# Altium footprint library layouts.PcbLib: 23 footprints (part 2 of 2)
Each footprint in its own frame and in the unit in brackets; x right, y up, seen from the top. Pads: shape width x height; smd on the part's side, far side on the other; paste and mask are expansions set on the pad; w line width, h text height; cw(c..) or ccw(c..) is an arc to the next point about the centre after c.
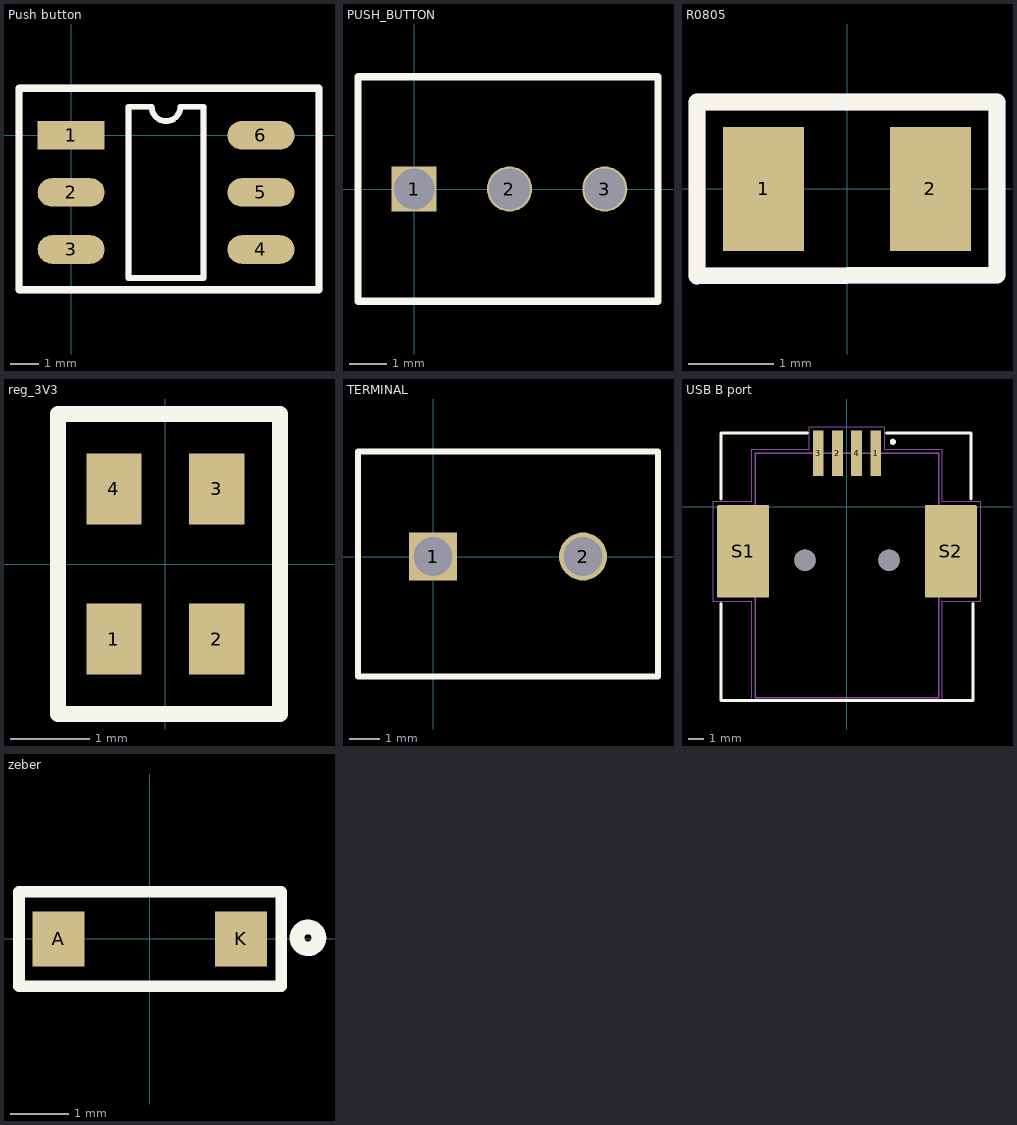
[diagram p1: the footprints below, top view; thin cyan lines are the x and y axes]

## Push button [mm]
pads (6):
  rect 2.35x1 smd: 1(0,0)
  oval 2.35x1 smd: 2(0,-2) 3(0,-4) 4(6.65,-4) 5(6.65,-2) 6(6.65,0)
Top Overlay:
  lines w0.2: 2.01,-5 2.01,1 2.825,1 ccw(c3.325,1) 3.825,1 4.64,1 4.64,-5 2.01,-5
  lines w0.254: -1.829,-5.41 -1.829,1.651 8.687,1.651 8.687,-5.41 -1.829,-5.41
Mechanical 29:
  lines w0.2: 2.01,-5 2.01,1 2.825,1 ccw(c3.325,1) 3.825,1 4.64,1 4.64,-5 2.01,-5
  lines w0.254: -1.829,-5.41 -1.829,1.651 8.687,1.651 8.687,-5.41 -1.829,-5.41
  text ".Designator" at -2.845,2.591 h1.52
3D body "TL2233OA.stp": height 7.9, standoff 0, extent -0.622,-4.881 7.378,0.919

## PUSH_BUTTON [mm]
pads (3):
  rect 1.2x1.2 hole 1.09: 1(0,0)
  round 1.2 hole 1.09: 2(2.54,0) 3(5.08,0)
Top Overlay:
  lines w0.2: -1.5,-3 -1.5,3 6.5,3 6.5,-3 -1.5,-3
Mechanical 1:
  text ".Designator" at -1.546,3.762 h1.52
3D body "800CSP1B6M2xE.stp": height 18.94, standoff -3.11, extent -1.51,-3.047 6.59,3.047

## R0805 [mm]
pads (2):
  rect 0.95x1.45 smd: 1(-0.975,0) 2(0.975,0)
Top Overlay:
  lines w0.2: -1.753,-1.018 -1.753,1.016 ; -1.753,-1.018 1.753,-1.008 ; -1.753,-1.018 1.753,-1.008 ; -1.753,-1.018 -1.753,1.016 ; -1.753,-1.018 1.753,-1.008 ; -1.753,-1.018 -1.753,1.016 ; -1.753,-1.018 1.753,-1.008 ; -1.753,1.016 1.753,1.016 ; -1.753,1.016 1.753,1.016 ; -1.753,1.016 1.753,1.016 ; 1.753,-1.008 1.753,1.016 ; 1.753,-1.008 1.753,1.016 ; 1.753,-1.008 1.753,1.016
Mechanical 29:
  lines w0.2: -1.753,-1.018 -1.753,1.016 ; -1.753,-1.018 1.753,-1.008 ; -1.753,-1.018 1.753,-1.008 ; -1.753,-1.018 -1.753,1.016 ; -1.753,-1.018 1.753,-1.008 ; -1.753,-1.018 -1.753,1.016 ; -1.753,-1.018 1.753,-1.008 ; -1.753,1.016 1.753,1.016 ; -1.753,1.016 1.753,1.016 ; -1.753,1.016 1.753,1.016 ; 1.753,-1.008 1.753,1.016 ; 1.753,-1.008 1.753,1.016 ; 1.753,-1.008 1.753,1.016
  text ".Designator" at -5.639,1.879 h1.52
3D body "User Library-CR2012-0805.step": height 0.6, standoff 0, extent -1,-0.625 1,0.625

## reg_3V3 [mm]
pads (4):
  rect 0.7x0.9 smd: 1(-0.65,-0.95) 2(0.65,-0.95) 3(0.65,0.95) 4(-0.65,0.95)
Top Overlay:
  lines w0.2: -1.36,-1.9 -1.36,1.9 1.453,1.9 1.453,-1.9 -1.36,-1.9
3D body "SC-82AB_ONS.step": height 1.09, standoff 0, extent -1.003,-1.207 1.003,1.207

## TERMINAL [mm]
pads (2):
  rect 1.6x1.6 hole 1.3: 1(0,0)
  round 1.6 hole 1.3: 2(5,0)
Top Overlay:
  lines w0.2: -2.5,-4 7.5,-4 7.5,3.5 -2.5,3.5 -2.5,-4
Mechanical 1:
  text ".Designator" at -2.446,4.562 h1.52
3D body "691137710002.step": height 11.5, standoff -3.6, extent -2.5,-4 7.5,3.5

## USB B port [mm]
pads (8):
  rrect4% 0.7x3 smd: 1(1.875,3.5) 2(-0.625,3.5) 3(-1.875,3.5) 4(0.625,3.5)
  rrect4% 3.4x6.04 smd: S1(-6.8,-2.92) S2(6.8,-2.92)
  round 1.4 hole 1.4 unplated: ""(-2.75,-3.5) ""(2.75,-3.5)
Top Overlay:
  circle w0.2: c3,4.25 r0.1
  lines w0.2: -8.255,-6.35 -8.255,-12.7 8.255,-12.7 8.255,-6.35 ; -8.255,0.5 -8.255,4.826 -2.575,4.826 ; 2.575,4.826 8.128,4.826 8.128,0.5
Mechanical 13:
  circle w0.2: c3,4.25 r0.1
  lines w0.1: -6,-12.5 6,-12.5 6,3.5 -6,3.5 -6,-12.5
  text "PCB EDGE" at -3.5,-12 h1.02
Mechanical 15:
  lines w0.05: -8.75,-6.19 -6.25,-6.19 -6.25,-12.75 6.25,-12.75 6.25,-6.19 8.75,-6.19 8.75,0.35 6.25,0.35 6.25,3.75 2.475,3.75 2.475,5.25 -2.475,5.25 -2.475,3.75 -6.25,3.75 -6.25,0.35 -8.75,0.35 -8.75,-6.19
3D body "USB-B-S-S-W-SM-TR.stp": height 10.78, standoff -1.32, extent -8.1,-12.545 8.1,4.705

## zeber [mm]
pads (2):
  rect 0.9x0.95 smd: A(-1.575,0) K(1.575,0)
Top Overlay:
  circle w0.254: c2.732,0.016 r0.19
  lines w0.2: -2.26,-0.82 2.267,-0.82 2.267,0.813 -2.26,0.813 -2.26,-0.82
Mechanical 29:
  text ".Designator" at -2.002,1.575 h1.52
3D body "SOD123_DIO.step": height 0.81, standoff 0, extent -1.925,-0.675 1.925,0.675